# Altium footprint library ES_Pcb.PcbLib: 383 footprints (part 20 of 24)
Each footprint in its own frame and in the unit in brackets; x right, y up, seen from the top. Pads: shape width x height; smd on the part's side, far side on the other; paste and mask are expansions set on the pad; w line width, h text height; cw(c..) or ccw(c..) is an arc to the next point about the centre after c.
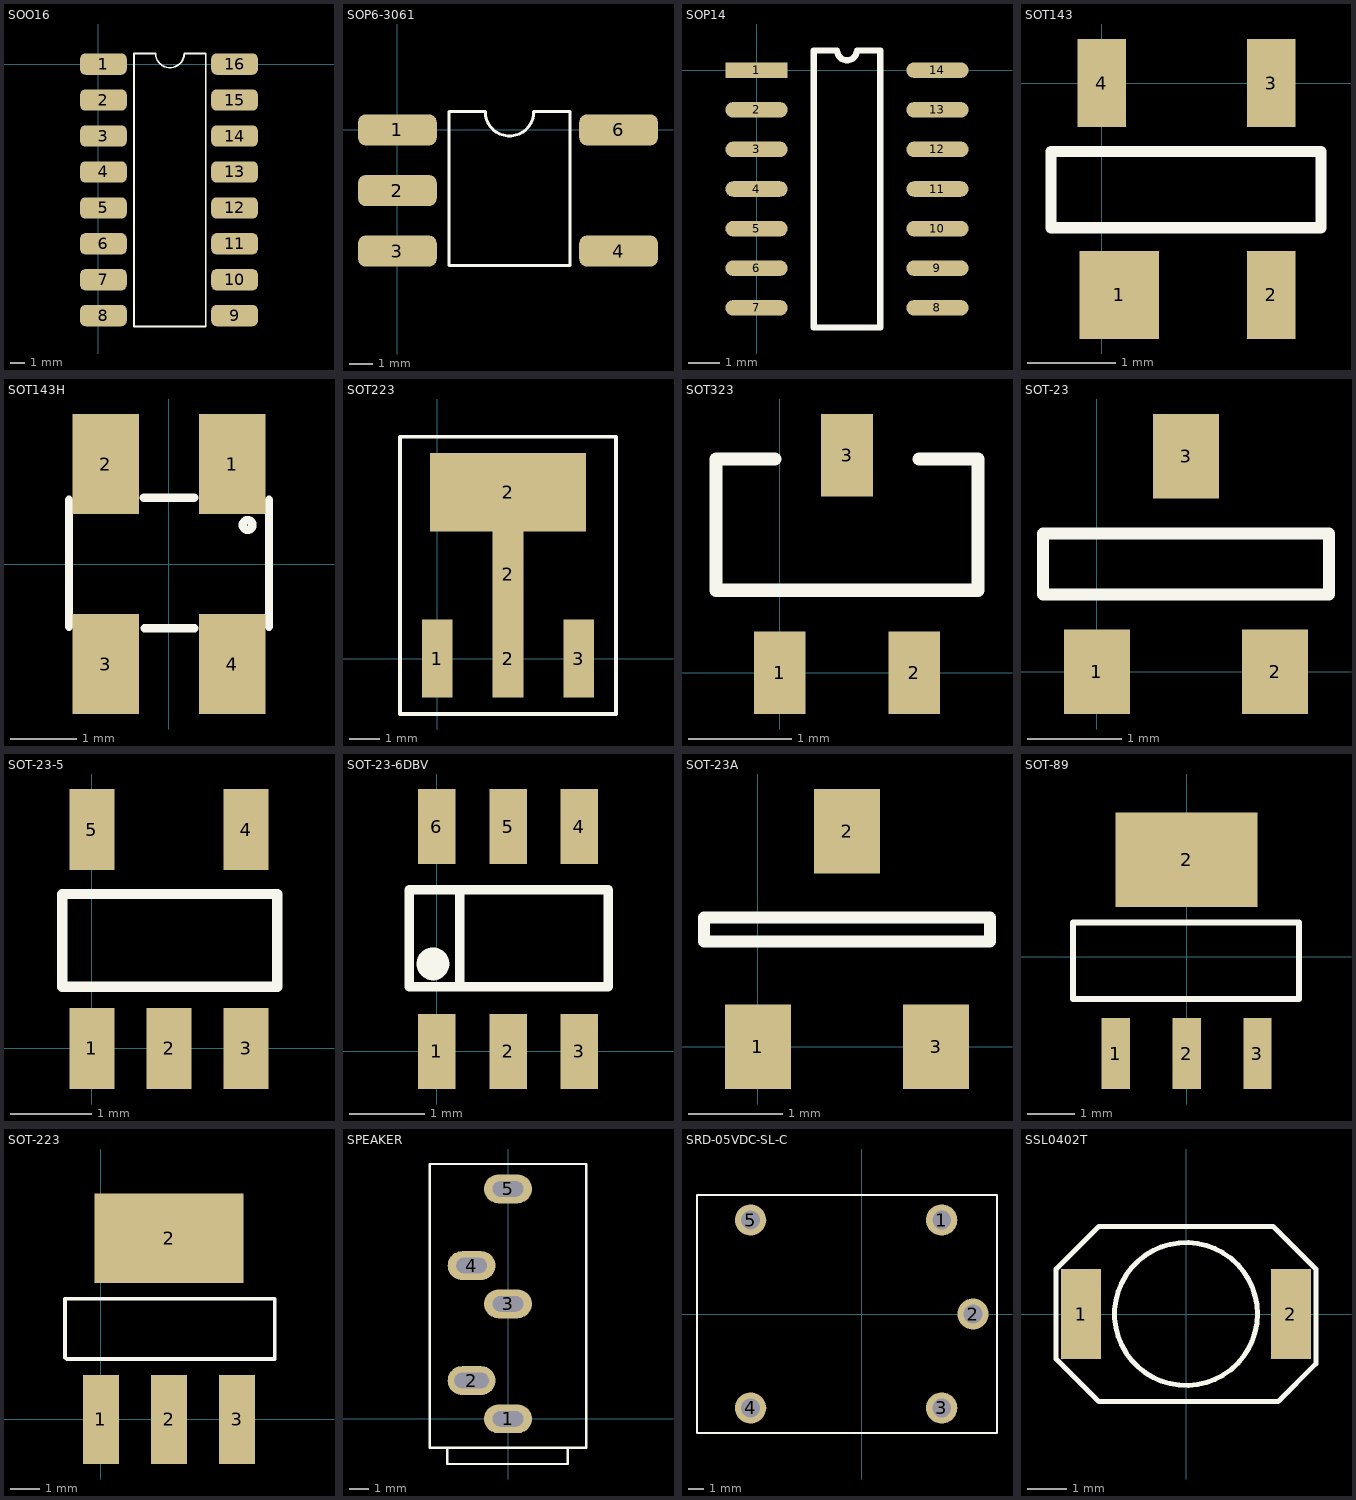
[diagram p19: the footprints below, top view; thin cyan lines are the x and y axes]

## SOO16 [mil]
pads (16):
  rrect50% 130x59.06 smd: 1(15,0) 2(15,-100) 3(15,-200) 4(15,-300) 5(15,-400) 6(15,-500) 7(15,-600) 8(15,-700) 9(380,-700) 10(380,-600) 11(380,-500) 12(380,-400) 13(380,-300) 14(380,-200) 15(380,-100) 16(380,0)
Top Overlay:
  lines w5: 100,-730 300,-730 300,30 240,30 cw(c200,30) 160,30 100,30 100,-730

## SOP6-3061 [mil]
pads (5):
  rrect50% 130x51.18 smd: 1(0,0) 2(0,-100) 3(0,-200) 4(365,-200) 6(365,0)
Top Overlay:
  lines w5: 85,-224 85,30 145,30 ccw(c185,30) 225,30 285,30 285,-224 85,-224

## SOP14 [mm]
pads (14):
  rect 2x0.5 smd: 1(0,0)
  oval 2x0.5 smd: 2(0,-1.27) 3(0,-2.54) 4(0,-3.81) 5(0,-5.08) 6(0,-6.35) 7(0,-7.62) 8(5.8,-7.62) 9(5.8,-6.35) 10(5.8,-5.08) 11(5.8,-3.81) 12(5.8,-2.54) 13(5.8,-1.27) 14(5.8,0)
Top Overlay:
  lines w0.2: 1.835,-8.255 1.835,0.635 2.582,0.635 ccw(c2.9,0.635) 3.217,0.635 3.965,0.635 3.965,-8.255 1.835,-8.255

## SOT143 [mm]
pads (4):
  rect 0.9x1 smd: 1(0.2,-2.4)
  rect 0.55x1 smd: 2(1.92,-2.4) 3(1.92,0) 4(0,0)
Top Overlay:
  lines w0.127: -0.575,-1.638 -0.575,-0.775 2.486,-0.775 2.486,-1.638 -0.575,-1.638

## SOT143H [mm]
pads (4):
  rect 1x1.5 smd: 1(0.95,1.5) 2(-0.95,1.5) 3(-0.95,-1.5) 4(0.95,-1.5)
Top Overlay:
  circle w0.127: c1.179,0.586 r0.072
  lines w0.127: -1.5,-0.94 -1.5,0.965 ; -0.381,0.991 0.381,0.991 ; -0.368,-0.965 0.382,-0.965 ; 1.5,-0.94 1.5,0.965

## SOT223 [mm]
pads (5):
  rect 1x2.54 smd: 1(0,0) 2(2.3,0) 3(4.6,0)
  rect 1x3 smd: 2(2.3,2.743)
  rect 5.08x2.54 smd: 2(2.3,5.4)
Top Overlay:
  lines w0.127: 5.776,7.2 -1.2,7.2 -1.2,-1.8 5.8,-1.8 5.8,7.2

## SOT323 [mm]
pads (3):
  rect 0.5x0.8 smd: 1(0,0) 2(1.3,0) 3(0.65,2.106)
Top Overlay:
  lines w0.127: -0.048,2.069 -0.62,2.069 -0.62,0.799 1.92,0.799 1.92,2.069 1.349,2.069

## SOT-23 [mm]
pads (3):
  rect 0.7x0.9 smd: 1(0,0) 2(1.9,0) 3(0.95,2.3)
Top Overlay:
  lines w0.127: -0.574,0.825 -0.574,1.473 2.474,1.473 2.474,0.825 -0.574,0.825

## SOT-23-5 [mm]
pads (5):
  rect 0.55x1 smd: 1(0,0) 2(0.95,0) 3(1.9,0) 4(1.9,2.7) 5(0,2.7)
Top Overlay:
  lines w0.127: -0.365,0.762 2.286,0.762 2.286,1.905 -0.365,1.905 -0.365,0.762

## SOT-23-6DBV [mm]
pads (6):
  rect 0.5x1 smd: 1(0,0) 2(0.95,0) 3(1.9,0) 4(1.9,3) 5(0.95,3) 6(0,3)
Top Overlay:
  circle w0.254: c-0.051,1.168 r0.092
  lines w0.127: 0.305,0.914 0.305,2.159 ; -0.365,0.864 -0.365,2.159 2.286,2.159 2.286,0.864 -0.365,0.864

## SOT-23A [mm]
pads (3):
  rect 0.7x0.9 smd: 1(0,0) 2(0.95,2.3) 3(1.9,0)
Top Overlay:
  lines w0.127: -0.574,1.125 -0.574,1.379 2.474,1.379 2.474,1.125 -0.574,1.125

## SOT-89 [mm]
height 1.5
pads (4):
  rect 0.6x1.5 smd: 1(-1.5,-2.05) 2(0,-2.05) 3(1.5,-2.05)
  rect 3x2 smd: 2(0,2.05)
Top Overlay:
  lines w0.127: -2.4,-0.9 -2.4,0.725 2.375,0.725 2.375,-0.9 -2.4,-0.9

## SOT-223 [mm]
pads (4):
  rect 1.2x3 smd: 1(0,0) 2(2.29,0) 3(4.58,0)
  rect 5x3 smd: 2(2.29,6.096)
Top Overlay:
  lines w0.127: 5.338,4.064 5.846,4.064 5.846,2.032 -1.154,2.032 -1.21,2.088 -1.21,4.064 5.79,4.064

## SPEAKER [mm]
pads (5):
  oval 2.5x1.5 hole 0.8 slot 1.6 at 0 deg: 1(0,0) 3(0,6) 4(-1.9,8) 5(0,12)
  oval 2.5x1.5 hole 0.8 slot 1.8 at 0 deg: 2(-1.9,2)
Top Overlay:
  lines w0.127: -4.09,-1.5 4.09,-1.5 4.09,13.3 -4.09,13.3 -4.09,-1.5 ; -3.175,-2.355 3.115,-2.355 3.115,-1.5 -3.175,-1.5 -3.175,-2.355

## SRD-05VDC-SL-C [mm]
pads (5):
  round 2 hole 1.2: 1(5.1,6) 2(7.1,0) 3(5.1,-6) 4(-7.1,-6) 5(-7.1,6)
Top Overlay:
  lines w0.127: -10.521,-7.6 -10.521,7.6 8.631,7.6 8.631,-7.6 -10.521,-7.6

## SSL0402T [mm]
pads (2):
  rect 1.02x2.3 smd: 1(-2.667,0) 2(2.667,0)
Top Overlay:
  circle w0.127: c0,0 r1.818
  lines w0.127: -1.397,-2.225 1.397,-2.225 ; -1.016,2.225 1.27,2.225 ; -3.302,-1.143 -3.302,1.143 -2.22,2.225 2.22,2.225 3.302,1.143 3.302,-1.27 2.347,-2.225 -2.22,-2.225 -3.302,-1.143